# EAGLE library part HV_GEN (library generator-lib)
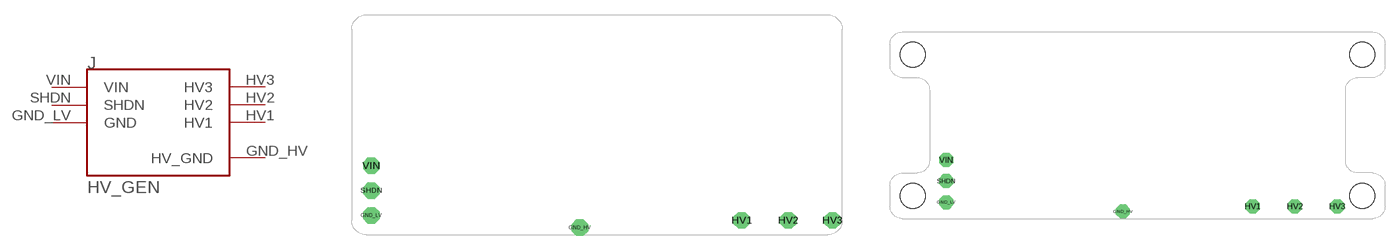
[diagram p0: symbol with the pads of BRD-LAYOUT; footprints BRD-LAYOUT, BRD-LAYOUT2]

Designator prefix J

## HV_GEN  [BRD-LAYOUT]
GND_HV  HV_GND
GND_LV  GND
HV1  HV1
HV2  HV2
HV3  HV3
SHDN  SHDN
VIN  VIN

## HV_GEN-HOLE  [BRD-LAYOUT2]
Pads as for BRD-LAYOUT

## Footprint BRD-LAYOUT (pad centres in mm)
drill 1.016 pad 1.676 octagon: GND_HV 23.25,0.75; GND_LV 2,2; HV1 39.75,1.5; HV2 44.5,1.5; HV3 49,1.5; SHDN 2,4.54; VIN 2,7.08

## Footprint BRD-LAYOUT2 (pad centres in mm)
drill 1 pad 1.676 octagon: GND_HV 23.25,0.875; HV1 38.837,1.499; HV2 43.917,1.499; HV3 48.997,1.499
drill 1.016 pad 1.676 octagon: GND_LV 2,2; SHDN 2,4.54; VIN 2,7.08
hole 3 at 52,2.75
hole 3 at 52,19.75
hole 3 at -2,19.75
hole 3 at -2,2.75